# Altium schematic symbol library LED-0603.SchLib: 1 symbol
Pins are listed as number, name and electrical type; pins without a type are passive.

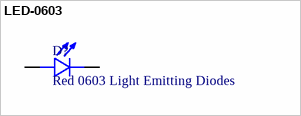
[diagram p0: symbol LED-0603]

## LED-0603
designator D?, comment Red 0603 Light Emitting Diodes
pins: A, C